# Altium schematic symbol library IIS328DQTR.SchLib: 2 symbols
Pins are listed as number, name and electrical type; pins without a type are passive.

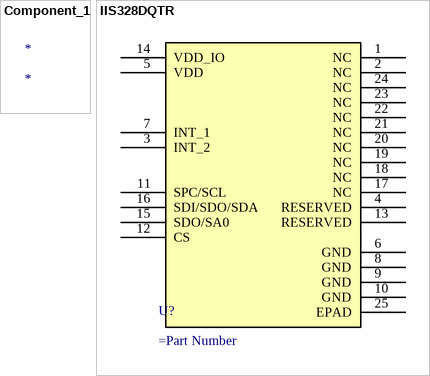
[diagram p0: symbols Component_1 to IIS328DQTR]

## Component_1
designator *

## IIS328DQTR
designator U?
=Description
pins: 1 NC, 2 NC, 3 INT_2, 4 RESERVED, 5 VDD (power), 6 GND (power), 7 INT_1, 8 GND (power), 9 GND (power), 10 GND (power), 11 SPC/SCL, 12 CS, 13 RESERVED, 14 VDD_IO (power), 15 SDO/SA0, 16 SDI/SDO/SDA, 17 NC, 18 NC, 19 NC, 20 NC, 21 NC, 22 NC, 23 NC, 24 NC, 25 EPAD